# Altium schematic symbol library rcl.SCHLIB: 895 symbols (part 1 of 5)
Pins are listed as number, name and electrical type; pins without a type are passive.

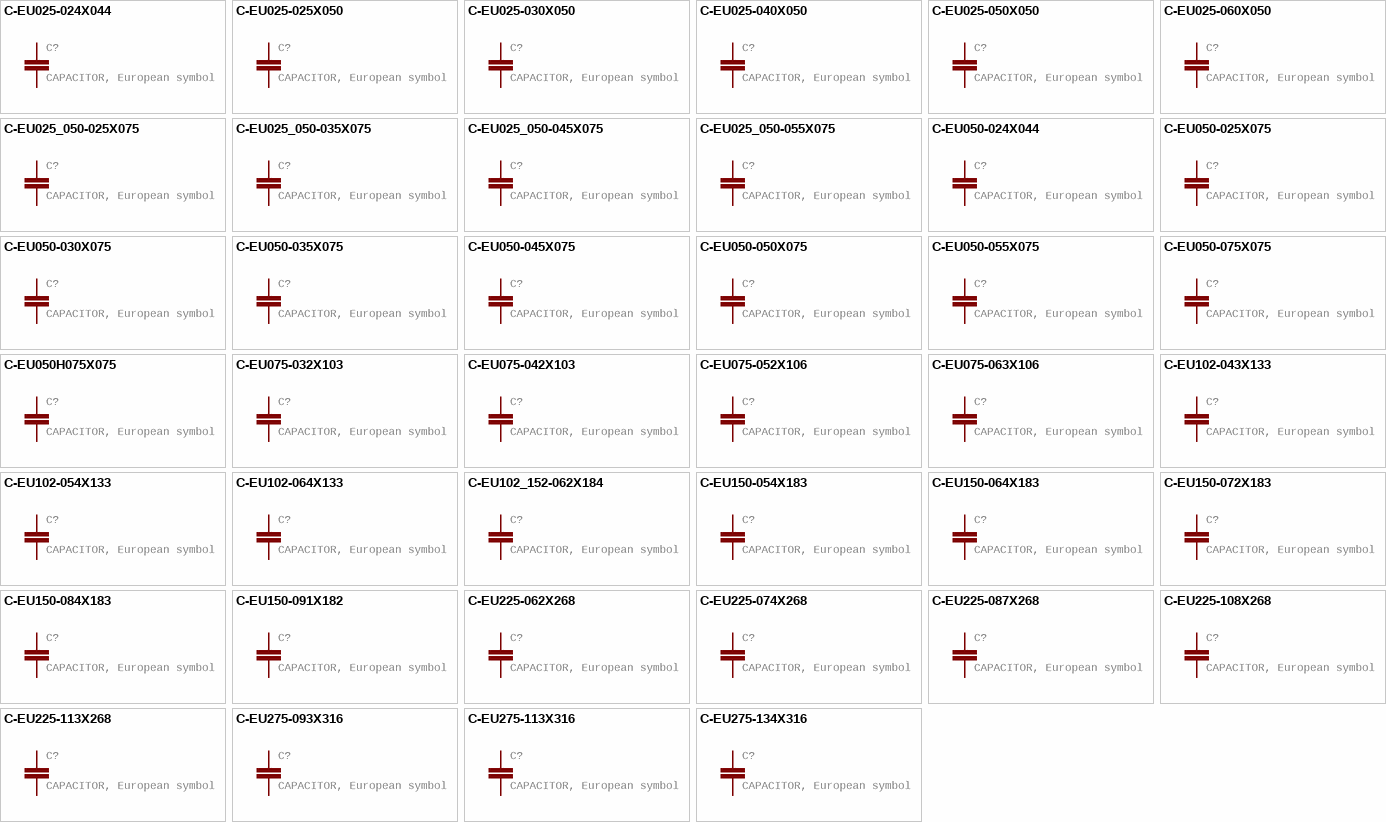
[diagram p0: symbols C-EU025-024X044 to C-EU275-134X316]

## C-EU025-024X044
designator C?, comment CAPACITOR, European symbol
GateName_1: G$1; SymbolName_1: C-EU; DeviceName: 025-024X044; POPULARITY: 56; LibraryName: rcl; DeviceSetName: C-EU; Package: C025-024X044; SPICEPREFIX: C
footprint C025-024X044
pins: 1, 2

## C-EU025-025X050
designator C?, comment CAPACITOR, European symbol
GateName_1: G$1; SymbolName_1: C-EU; DeviceName: 025-025X050; POPULARITY: 65; LibraryName: rcl; DeviceSetName: C-EU; Package: C025-025X050; SPICEPREFIX: C
footprint C025-025X050
pins: 1, 2

## C-EU025-030X050
designator C?, comment CAPACITOR, European symbol
GateName_1: G$1; SymbolName_1: C-EU; DeviceName: 025-030X050; POPULARITY: 14; LibraryName: rcl; DeviceSetName: C-EU; Package: C025-030X050; SPICEPREFIX: C
footprint C025-030X050
pins: 1, 2

## C-EU025-040X050
designator C?, comment CAPACITOR, European symbol
GateName_1: G$1; SymbolName_1: C-EU; DeviceName: 025-040X050; POPULARITY: 4; LibraryName: rcl; DeviceSetName: C-EU; Package: C025-040X050; SPICEPREFIX: C
footprint C025-040X050
pins: 1, 2

## C-EU025-050X050
designator C?, comment CAPACITOR, European symbol
GateName_1: G$1; SymbolName_1: C-EU; DeviceName: 025-050X050; POPULARITY: 16; LibraryName: rcl; DeviceSetName: C-EU; Package: C025-050X050; SPICEPREFIX: C
footprint C025-050X050
pins: 1, 2

## C-EU025-060X050
designator C?, comment CAPACITOR, European symbol
GateName_1: G$1; SymbolName_1: C-EU; DeviceName: 025-060X050; POPULARITY: 0; LibraryName: rcl; DeviceSetName: C-EU; Package: C025-060X050; SPICEPREFIX: C
footprint C025-060X050
pins: 1, 2

## C-EU025_050-025X075
designator C?, comment CAPACITOR, European symbol
GateName_1: G$1; SymbolName_1: C-EU; DeviceName: 025_050-025X075; POPULARITY: 0; LibraryName: rcl; DeviceSetName: C-EU; Package: C025_050-025X075; SPICEPREFIX: C
footprint C025_050-025X075
pins: 1, 2

## C-EU025_050-035X075
designator C?, comment CAPACITOR, European symbol
GateName_1: G$1; SymbolName_1: C-EU; DeviceName: 025_050-035X075; POPULARITY: 0; LibraryName: rcl; DeviceSetName: C-EU; Package: C025_050-035X075; SPICEPREFIX: C
footprint C025_050-035X075
pins: 1, 2

## C-EU025_050-045X075
designator C?, comment CAPACITOR, European symbol
GateName_1: G$1; SymbolName_1: C-EU; DeviceName: 025_050-045X075; POPULARITY: 0; LibraryName: rcl; DeviceSetName: C-EU; Package: C025_050-045X075; SPICEPREFIX: C
footprint C025_050-045X075
pins: 1, 2

## C-EU025_050-055X075
designator C?, comment CAPACITOR, European symbol
GateName_1: G$1; SymbolName_1: C-EU; DeviceName: 025_050-055X075; POPULARITY: 1; LibraryName: rcl; DeviceSetName: C-EU; Package: C025_050-055X075; SPICEPREFIX: C
footprint C025_050-055X075
pins: 1, 2

## C-EU050-024X044
designator C?, comment CAPACITOR, European symbol
GateName_1: G$1; SymbolName_1: C-EU; DeviceName: 050-024X044; POPULARITY: 33; LibraryName: rcl; DeviceSetName: C-EU; Package: C050-024X044; SPICEPREFIX: C
footprint C050-024X044
pins: 1, 2

## C-EU050-025X075
designator C?, comment CAPACITOR, European symbol
GateName_1: G$1; SymbolName_1: C-EU; DeviceName: 050-025X075; POPULARITY: 29; LibraryName: rcl; DeviceSetName: C-EU; Package: C050-025X075; SPICEPREFIX: C
footprint C050-025X075
pins: 1, 2

## C-EU050-030X075
designator C?, comment CAPACITOR, European symbol
GateName_1: G$1; SymbolName_1: C-EU; DeviceName: 050-030X075; POPULARITY: 9; LibraryName: rcl; DeviceSetName: C-EU; Package: C050-030X075; SPICEPREFIX: C
footprint C050-030X075
pins: 1, 2

## C-EU050-035X075
designator C?, comment CAPACITOR, European symbol
GateName_1: G$1; SymbolName_1: C-EU; DeviceName: 050-035X075; POPULARITY: 2; LibraryName: rcl; DeviceSetName: C-EU; Package: C050-035X075; SPICEPREFIX: C
footprint C050-035X075
pins: 1, 2

## C-EU050-045X075
designator C?, comment CAPACITOR, European symbol
GateName_1: G$1; SymbolName_1: C-EU; DeviceName: 050-045X075; POPULARITY: 1; LibraryName: rcl; DeviceSetName: C-EU; Package: C050-045X075; SPICEPREFIX: C
footprint C050-045X075
pins: 1, 2

## C-EU050-050X075
designator C?, comment CAPACITOR, European symbol
GateName_1: G$1; SymbolName_1: C-EU; DeviceName: 050-050X075; POPULARITY: 1; LibraryName: rcl; DeviceSetName: C-EU; Package: C050-050X075; SPICEPREFIX: C
footprint C050-050X075
pins: 1, 2

## C-EU050-055X075
designator C?, comment CAPACITOR, European symbol
GateName_1: G$1; SymbolName_1: C-EU; DeviceName: 050-055X075; POPULARITY: 1; LibraryName: rcl; DeviceSetName: C-EU; Package: C050-055X075; SPICEPREFIX: C
footprint C050-055X075
pins: 1, 2

## C-EU050-075X075
designator C?, comment CAPACITOR, European symbol
GateName_1: G$1; SymbolName_1: C-EU; DeviceName: 050-075X075; POPULARITY: 0; LibraryName: rcl; DeviceSetName: C-EU; Package: C050-075X075; SPICEPREFIX: C
footprint C050-075X075
pins: 1, 2

## C-EU050H075X075
designator C?, comment CAPACITOR, European symbol
GateName_1: G$1; SymbolName_1: C-EU; DeviceName: 050H075X075; POPULARITY: 0; LibraryName: rcl; DeviceSetName: C-EU; Package: C050H075X075; SPICEPREFIX: C
footprint C050H075X075
pins: 1, 2

## C-EU075-032X103
designator C?, comment CAPACITOR, European symbol
GateName_1: G$1; SymbolName_1: C-EU; DeviceName: 075-032X103; POPULARITY: 0; LibraryName: rcl; DeviceSetName: C-EU; Package: C075-032X103; SPICEPREFIX: C
footprint C075-032X103
pins: 1, 2

## C-EU075-042X103
designator C?, comment CAPACITOR, European symbol
GateName_1: G$1; SymbolName_1: C-EU; DeviceName: 075-042X103; POPULARITY: 0; LibraryName: rcl; DeviceSetName: C-EU; Package: C075-042X103; SPICEPREFIX: C
footprint C075-042X103
pins: 1, 2

## C-EU075-052X106
designator C?, comment CAPACITOR, European symbol
GateName_1: G$1; SymbolName_1: C-EU; DeviceName: 075-052X106; POPULARITY: 4; LibraryName: rcl; DeviceSetName: C-EU; Package: C075-052X106; SPICEPREFIX: C
footprint C075-052X106
pins: 1, 2

## C-EU075-063X106
designator C?, comment CAPACITOR, European symbol
GateName_1: G$1; SymbolName_1: C-EU; DeviceName: 075-063X106; POPULARITY: 0; LibraryName: rcl; DeviceSetName: C-EU; Package: C075-063X106; SPICEPREFIX: C
footprint C075-063X106
pins: 1, 2

## C-EU102-043X133
designator C?, comment CAPACITOR, European symbol
GateName_1: G$1; SymbolName_1: C-EU; DeviceName: 102-043X133; POPULARITY: 1; LibraryName: rcl; DeviceSetName: C-EU; Package: C102-043X133; SPICEPREFIX: C
footprint C102-043X133
pins: 1, 2

## C-EU102-054X133
designator C?, comment CAPACITOR, European symbol
GateName_1: G$1; SymbolName_1: C-EU; DeviceName: 102-054X133; POPULARITY: 0; LibraryName: rcl; DeviceSetName: C-EU; Package: C102-054X133; SPICEPREFIX: C
footprint C102-054X133
pins: 1, 2

## C-EU102-064X133
designator C?, comment CAPACITOR, European symbol
GateName_1: G$1; SymbolName_1: C-EU; DeviceName: 102-064X133; POPULARITY: 0; LibraryName: rcl; DeviceSetName: C-EU; Package: C102-064X133; SPICEPREFIX: C
footprint C102-064X133
pins: 1, 2

## C-EU102_152-062X184
designator C?, comment CAPACITOR, European symbol
GateName_1: G$1; SymbolName_1: C-EU; DeviceName: 102_152-062X184; POPULARITY: 0; LibraryName: rcl; DeviceSetName: C-EU; Package: C102_152-062X184; SPICEPREFIX: C
footprint C102_152-062X184
pins: 1, 2

## C-EU150-054X183
designator C?, comment CAPACITOR, European symbol
GateName_1: G$1; SymbolName_1: C-EU; DeviceName: 150-054X183; POPULARITY: 3; LibraryName: rcl; DeviceSetName: C-EU; Package: C150-054X183; SPICEPREFIX: C
footprint C150-054X183
pins: 1, 2

## C-EU150-064X183
designator C?, comment CAPACITOR, European symbol
GateName_1: G$1; SymbolName_1: C-EU; DeviceName: 150-064X183; POPULARITY: 0; LibraryName: rcl; DeviceSetName: C-EU; Package: C150-064X183; SPICEPREFIX: C
footprint C150-064X183
pins: 1, 2

## C-EU150-072X183
designator C?, comment CAPACITOR, European symbol
GateName_1: G$1; SymbolName_1: C-EU; DeviceName: 150-072X183; POPULARITY: 0; LibraryName: rcl; DeviceSetName: C-EU; Package: C150-072X183; SPICEPREFIX: C
footprint C150-072X183
pins: 1, 2

## C-EU150-084X183
designator C?, comment CAPACITOR, European symbol
GateName_1: G$1; SymbolName_1: C-EU; DeviceName: 150-084X183; POPULARITY: 0; LibraryName: rcl; DeviceSetName: C-EU; Package: C150-084X183; SPICEPREFIX: C
footprint C150-084X183
pins: 1, 2

## C-EU150-091X182
designator C?, comment CAPACITOR, European symbol
GateName_1: G$1; SymbolName_1: C-EU; DeviceName: 150-091X182; POPULARITY: 0; LibraryName: rcl; DeviceSetName: C-EU; Package: C150-091X182; SPICEPREFIX: C
footprint C150-091X182
pins: 1, 2

## C-EU225-062X268
designator C?, comment CAPACITOR, European symbol
GateName_1: G$1; SymbolName_1: C-EU; DeviceName: 225-062X268; POPULARITY: 0; LibraryName: rcl; DeviceSetName: C-EU; Package: C225-062X268; SPICEPREFIX: C
footprint C225-062X268
pins: 1, 2

## C-EU225-074X268
designator C?, comment CAPACITOR, European symbol
GateName_1: G$1; SymbolName_1: C-EU; DeviceName: 225-074X268; POPULARITY: 2; LibraryName: rcl; DeviceSetName: C-EU; Package: C225-074X268; SPICEPREFIX: C
footprint C225-074X268
pins: 1, 2

## C-EU225-087X268
designator C?, comment CAPACITOR, European symbol
GateName_1: G$1; SymbolName_1: C-EU; DeviceName: 225-087X268; POPULARITY: 0; LibraryName: rcl; DeviceSetName: C-EU; Package: C225-087X268; SPICEPREFIX: C
footprint C225-087X268
pins: 1, 2

## C-EU225-108X268
designator C?, comment CAPACITOR, European symbol
GateName_1: G$1; SymbolName_1: C-EU; DeviceName: 225-108X268; POPULARITY: 0; LibraryName: rcl; DeviceSetName: C-EU; Package: C225-108X268; SPICEPREFIX: C
footprint C225-108X268
pins: 1, 2

## C-EU225-113X268
designator C?, comment CAPACITOR, European symbol
GateName_1: G$1; SymbolName_1: C-EU; DeviceName: 225-113X268; POPULARITY: 0; LibraryName: rcl; DeviceSetName: C-EU; Package: C225-113X268; SPICEPREFIX: C
footprint C225-113X268
pins: 1, 2

## C-EU275-093X316
designator C?, comment CAPACITOR, European symbol
GateName_1: G$1; SymbolName_1: C-EU; DeviceName: 275-093X316; POPULARITY: 0; LibraryName: rcl; DeviceSetName: C-EU; Package: C275-093X316; SPICEPREFIX: C
footprint C275-093X316
pins: 1, 2

## C-EU275-113X316
designator C?, comment CAPACITOR, European symbol
GateName_1: G$1; SymbolName_1: C-EU; DeviceName: 275-113X316; POPULARITY: 0; LibraryName: rcl; DeviceSetName: C-EU; Package: C275-113X316; SPICEPREFIX: C
footprint C275-113X316
pins: 1, 2

## C-EU275-134X316
designator C?, comment CAPACITOR, European symbol
GateName_1: G$1; SymbolName_1: C-EU; DeviceName: 275-134X316; POPULARITY: 0; LibraryName: rcl; DeviceSetName: C-EU; Package: C275-134X316; SPICEPREFIX: C
footprint C275-134X316
pins: 1, 2

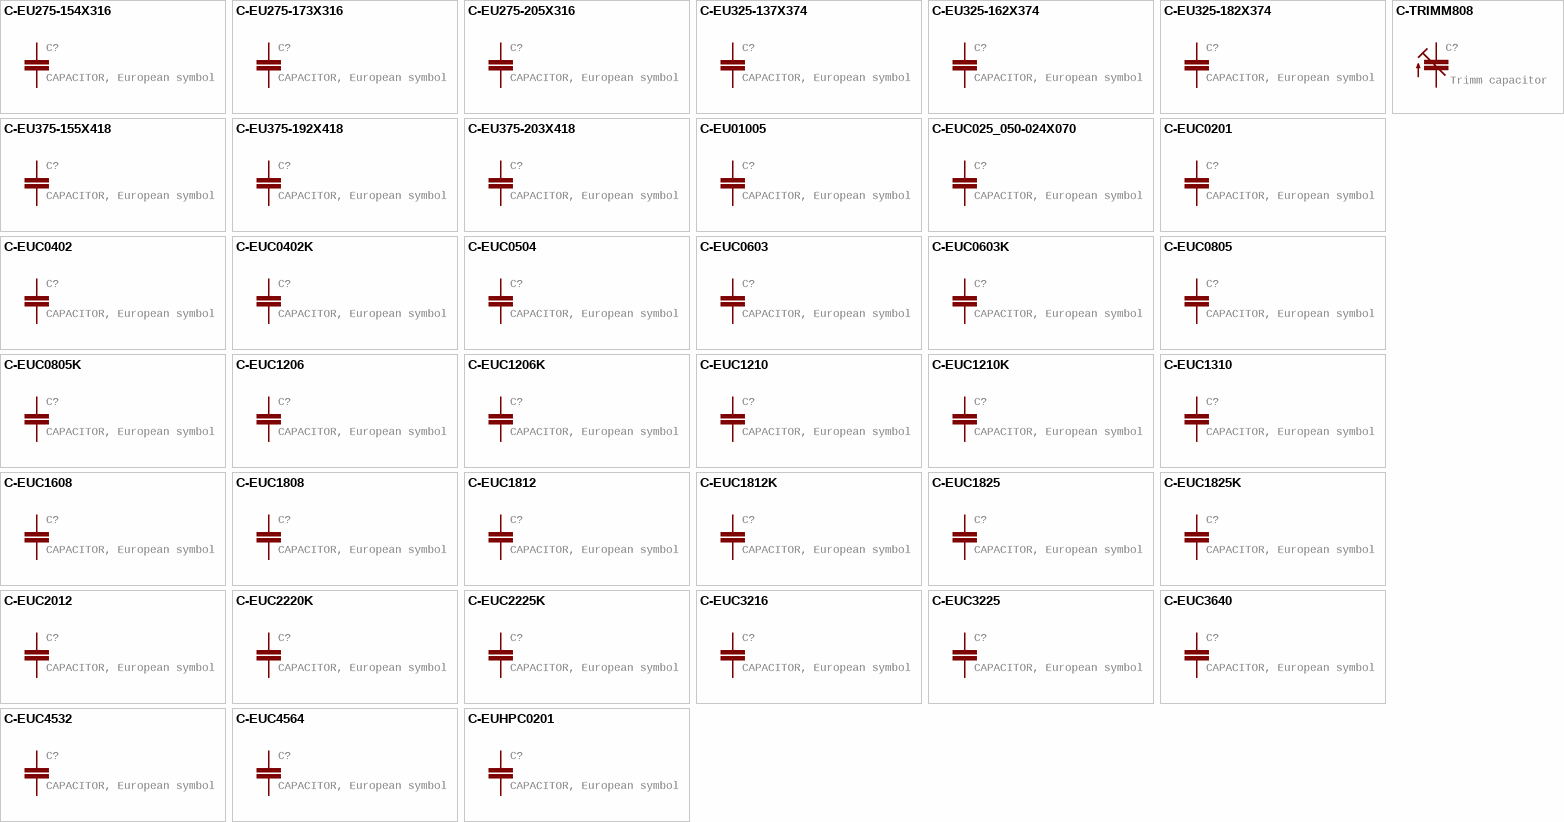
[diagram p1: symbols C-EU275-154X316 to C-TRIMM808]

## C-EU275-154X316
designator C?, comment CAPACITOR, European symbol
GateName_1: G$1; SymbolName_1: C-EU; DeviceName: 275-154X316; POPULARITY: 0; LibraryName: rcl; DeviceSetName: C-EU; Package: C275-154X316; SPICEPREFIX: C
footprint C275-154X316
pins: 1, 2

## C-EU275-173X316
designator C?, comment CAPACITOR, European symbol
GateName_1: G$1; SymbolName_1: C-EU; DeviceName: 275-173X316; POPULARITY: 0; LibraryName: rcl; DeviceSetName: C-EU; Package: C275-173X316; SPICEPREFIX: C
footprint C275-173X316
pins: 1, 2

## C-EU275-205X316
designator C?, comment CAPACITOR, European symbol
GateName_1: G$1; SymbolName_1: C-EU; DeviceName: 275-205X316; POPULARITY: 0; LibraryName: rcl; DeviceSetName: C-EU; Package: C275-205X316; SPICEPREFIX: C
footprint C275-205X316
pins: 1, 2

## C-EU325-137X374
designator C?, comment CAPACITOR, European symbol
GateName_1: G$1; SymbolName_1: C-EU; DeviceName: 325-137X374; POPULARITY: 0; LibraryName: rcl; DeviceSetName: C-EU; Package: C325-137X374; SPICEPREFIX: C
footprint C325-137X374
pins: 1, 2

## C-EU325-162X374
designator C?, comment CAPACITOR, European symbol
GateName_1: G$1; SymbolName_1: C-EU; DeviceName: 325-162X374; POPULARITY: 0; LibraryName: rcl; DeviceSetName: C-EU; Package: C325-162X374; SPICEPREFIX: C
footprint C325-162X374
pins: 1, 2

## C-EU325-182X374
designator C?, comment CAPACITOR, European symbol
GateName_1: G$1; SymbolName_1: C-EU; DeviceName: 325-182X374; POPULARITY: 0; LibraryName: rcl; DeviceSetName: C-EU; Package: C325-182X374; SPICEPREFIX: C
footprint C325-182X374
pins: 1, 2

## C-EU375-155X418
designator C?, comment CAPACITOR, European symbol
GateName_1: G$1; SymbolName_1: C-EU; DeviceName: 375-155X418; POPULARITY: 0; LibraryName: rcl; DeviceSetName: C-EU; Package: C375-155X418; SPICEPREFIX: C
footprint C375-155X418
pins: 1, 2

## C-EU375-192X418
designator C?, comment CAPACITOR, European symbol
GateName_1: G$1; SymbolName_1: C-EU; DeviceName: 375-192X418; POPULARITY: 0; LibraryName: rcl; DeviceSetName: C-EU; Package: C375-192X418; SPICEPREFIX: C
footprint C375-192X418
pins: 1, 2

## C-EU375-203X418
designator C?, comment CAPACITOR, European symbol
GateName_1: G$1; SymbolName_1: C-EU; DeviceName: 375-203X418; POPULARITY: 0; LibraryName: rcl; DeviceSetName: C-EU; Package: C375-203X418; SPICEPREFIX: C
footprint C375-203X418
pins: 1, 2

## C-EU01005
designator C?, comment CAPACITOR, European symbol
GateName_1: G$1; SymbolName_1: C-EU; DeviceName: 01005; POPULARITY: 0; LibraryName: rcl; DeviceSetName: C-EU; Package: C01005; SPICEPREFIX: C
footprint C01005
pins: 1, 2

## C-EUC025_050-024X070
designator C?, comment CAPACITOR, European symbol
GateName_1: G$1; SymbolName_1: C-EU; DeviceName: C025_050-024X070; POPULARITY: 0; LibraryName: rcl; DeviceSetName: C-EU; Package: C025_050-024X070; SPICEPREFIX: C
footprint C025_050-024X070
pins: 1, 2

## C-EUC0201
designator C?, comment CAPACITOR, European symbol
GateName_1: G$1; SymbolName_1: C-EU; DeviceName: C0201; POPULARITY: 0; LibraryName: rcl; DeviceSetName: C-EU; Package: C0201; SPICEPREFIX: C
footprint C0201
pins: 1, 2

## C-EUC0402
designator C?, comment CAPACITOR, European symbol
GateName_1: G$1; SymbolName_1: C-EU; DeviceName: C0402; POPULARITY: 18; LibraryName: rcl; DeviceSetName: C-EU; Package: C0402; SPICEPREFIX: C
footprint C0402
pins: 1, 2

## C-EUC0402K
designator C?, comment CAPACITOR, European symbol
GateName_1: G$1; SymbolName_1: C-EU; DeviceName: C0402K; POPULARITY: 15; LibraryName: rcl; DeviceSetName: C-EU; Package: C0402K; SPICEPREFIX: C
footprint C0402K
pins: 1, 2

## C-EUC0504
designator C?, comment CAPACITOR, European symbol
GateName_1: G$1; SymbolName_1: C-EU; DeviceName: C0504; POPULARITY: 2; LibraryName: rcl; DeviceSetName: C-EU; Package: C0504; SPICEPREFIX: C
footprint C0504
pins: 1, 2

## C-EUC0603
designator C?, comment CAPACITOR, European symbol
GateName_1: G$1; SymbolName_1: C-EU; DeviceName: C0603; POPULARITY: 73; LibraryName: rcl; DeviceSetName: C-EU; Package: C0603; SPICEPREFIX: C
footprint C0603
pins: 1, 2

## C-EUC0603K
designator C?, comment CAPACITOR, European symbol
GateName_1: G$1; SymbolName_1: C-EU; DeviceName: C0603K; POPULARITY: 30; LibraryName: rcl; DeviceSetName: C-EU; Package: C0603K; SPICEPREFIX: C
footprint C0603K
pins: 1, 2

## C-EUC0805
designator C?, comment CAPACITOR, European symbol
GateName_1: G$1; SymbolName_1: C-EU; DeviceName: C0805; POPULARITY: 88; LibraryName: rcl; DeviceSetName: C-EU; Package: C0805; SPICEPREFIX: C
footprint C0805
pins: 1, 2

## C-EUC0805K
designator C?, comment CAPACITOR, European symbol
GateName_1: G$1; SymbolName_1: C-EU; DeviceName: C0805K; POPULARITY: 52; LibraryName: rcl; DeviceSetName: C-EU; Package: C0805K; SPICEPREFIX: C
footprint C0805K
pins: 1, 2

## C-EUC1206
designator C?, comment CAPACITOR, European symbol
GateName_1: G$1; SymbolName_1: C-EU; DeviceName: C1206; POPULARITY: 54; LibraryName: rcl; DeviceSetName: C-EU; Package: C1206; SPICEPREFIX: C
footprint C1206
pins: 1, 2

## C-EUC1206K
designator C?, comment CAPACITOR, European symbol
GateName_1: G$1; SymbolName_1: C-EU; DeviceName: C1206K; POPULARITY: 13; LibraryName: rcl; DeviceSetName: C-EU; Package: C1206K; SPICEPREFIX: C
footprint C1206K
pins: 1, 2

## C-EUC1210
designator C?, comment CAPACITOR, European symbol
GateName_1: G$1; SymbolName_1: C-EU; DeviceName: C1210; POPULARITY: 0; LibraryName: rcl; DeviceSetName: C-EU; Package: C1210; SPICEPREFIX: C
footprint C1210
pins: 1, 2

## C-EUC1210K
designator C?, comment CAPACITOR, European symbol
GateName_1: G$1; SymbolName_1: C-EU; DeviceName: C1210K; POPULARITY: 0; LibraryName: rcl; DeviceSetName: C-EU; Package: C1210K; SPICEPREFIX: C
footprint C1210K
pins: 1, 2

## C-EUC1310
designator C?, comment CAPACITOR, European symbol
GateName_1: G$1; SymbolName_1: C-EU; DeviceName: C1310; POPULARITY: 0; LibraryName: rcl; DeviceSetName: C-EU; Package: C1310; SPICEPREFIX: C
footprint C1310
pins: 1, 2

## C-EUC1608
designator C?, comment CAPACITOR, European symbol
GateName_1: G$1; SymbolName_1: C-EU; DeviceName: C1608; POPULARITY: 3; LibraryName: rcl; DeviceSetName: C-EU; Package: C1608; SPICEPREFIX: C
footprint C1608
pins: 1, 2

## C-EUC1808
designator C?, comment CAPACITOR, European symbol
GateName_1: G$1; SymbolName_1: C-EU; DeviceName: C1808; POPULARITY: 0; LibraryName: rcl; DeviceSetName: C-EU; Package: C1808; SPICEPREFIX: C
footprint C1808
pins: 1, 2

## C-EUC1812
designator C?, comment CAPACITOR, European symbol
GateName_1: G$1; SymbolName_1: C-EU; DeviceName: C1812; POPULARITY: 3; LibraryName: rcl; DeviceSetName: C-EU; Package: C1812; SPICEPREFIX: C
footprint C1812
pins: 1, 2

## C-EUC1812K
designator C?, comment CAPACITOR, European symbol
GateName_1: G$1; SymbolName_1: C-EU; DeviceName: C1812K; POPULARITY: 0; LibraryName: rcl; DeviceSetName: C-EU; Package: C1812K; SPICEPREFIX: C
footprint C1812K
pins: 1, 2

## C-EUC1825
designator C?, comment CAPACITOR, European symbol
GateName_1: G$1; SymbolName_1: C-EU; DeviceName: C1825; POPULARITY: 0; LibraryName: rcl; DeviceSetName: C-EU; Package: C1825; SPICEPREFIX: C
footprint C1825
pins: 1, 2

## C-EUC1825K
designator C?, comment CAPACITOR, European symbol
GateName_1: G$1; SymbolName_1: C-EU; DeviceName: C1825K; POPULARITY: 0; LibraryName: rcl; DeviceSetName: C-EU; Package: C1825K; SPICEPREFIX: C
footprint C1825K
pins: 1, 2

## C-EUC2012
designator C?, comment CAPACITOR, European symbol
GateName_1: G$1; SymbolName_1: C-EU; DeviceName: C2012; POPULARITY: 0; LibraryName: rcl; DeviceSetName: C-EU; Package: C2012; SPICEPREFIX: C
footprint C2012
pins: 1, 2

## C-EUC2220K
designator C?, comment CAPACITOR, European symbol
GateName_1: G$1; SymbolName_1: C-EU; DeviceName: C2220K; POPULARITY: 0; LibraryName: rcl; DeviceSetName: C-EU; Package: C2220K; SPICEPREFIX: C
footprint C2220K
pins: 1, 2

## C-EUC2225K
designator C?, comment CAPACITOR, European symbol
GateName_1: G$1; SymbolName_1: C-EU; DeviceName: C2225K; POPULARITY: 0; LibraryName: rcl; DeviceSetName: C-EU; Package: C2225K; SPICEPREFIX: C
footprint C2225K
pins: 1, 2

## C-EUC3216
designator C?, comment CAPACITOR, European symbol
GateName_1: G$1; SymbolName_1: C-EU; DeviceName: C3216; POPULARITY: 4; LibraryName: rcl; DeviceSetName: C-EU; Package: C3216; SPICEPREFIX: C
footprint C3216
pins: 1, 2

## C-EUC3225
designator C?, comment CAPACITOR, European symbol
GateName_1: G$1; SymbolName_1: C-EU; DeviceName: C3225; POPULARITY: 0; LibraryName: rcl; DeviceSetName: C-EU; Package: C3225; SPICEPREFIX: C
footprint C3225
pins: 1, 2

## C-EUC3640
designator C?, comment CAPACITOR, European symbol
GateName_1: G$1; SymbolName_1: C-EU; DeviceName: C3640; POPULARITY: 0; LibraryName: rcl; DeviceSetName: C-EU; Package: C3640; SPICEPREFIX: C
footprint C3640
pins: 1, 2

## C-EUC4532
designator C?, comment CAPACITOR, European symbol
GateName_1: G$1; SymbolName_1: C-EU; DeviceName: C4532; POPULARITY: 0; LibraryName: rcl; DeviceSetName: C-EU; Package: C4532; SPICEPREFIX: C
footprint C4532
pins: 1, 2

## C-EUC4564
designator C?, comment CAPACITOR, European symbol
GateName_1: G$1; SymbolName_1: C-EU; DeviceName: C4564; POPULARITY: 0; LibraryName: rcl; DeviceSetName: C-EU; Package: C4564; SPICEPREFIX: C
footprint C4564
pins: 1, 2

## C-EUHPC0201
designator C?, comment CAPACITOR, European symbol
GateName_1: G$1; SymbolName_1: C-EU; DeviceName: HPC0201; POPULARITY: 0; LibraryName: rcl; DeviceSetName: C-EU; Package: HPC0201; SPICEPREFIX: C
footprint HPC0201
pins: 1, 2

## C-TRIMM808
designator C?, comment Trimm capacitor
GateName_1: G$1; SymbolName_1: C-TRIMM; DeviceName: 808; POPULARITY: 3; LibraryName: rcl; DeviceSetName: C-TRIMM; Package: CTRIM808-BC; SPICEPREFIX: C
footprint CTRIM808-BC
pins: 1 E, 2 A

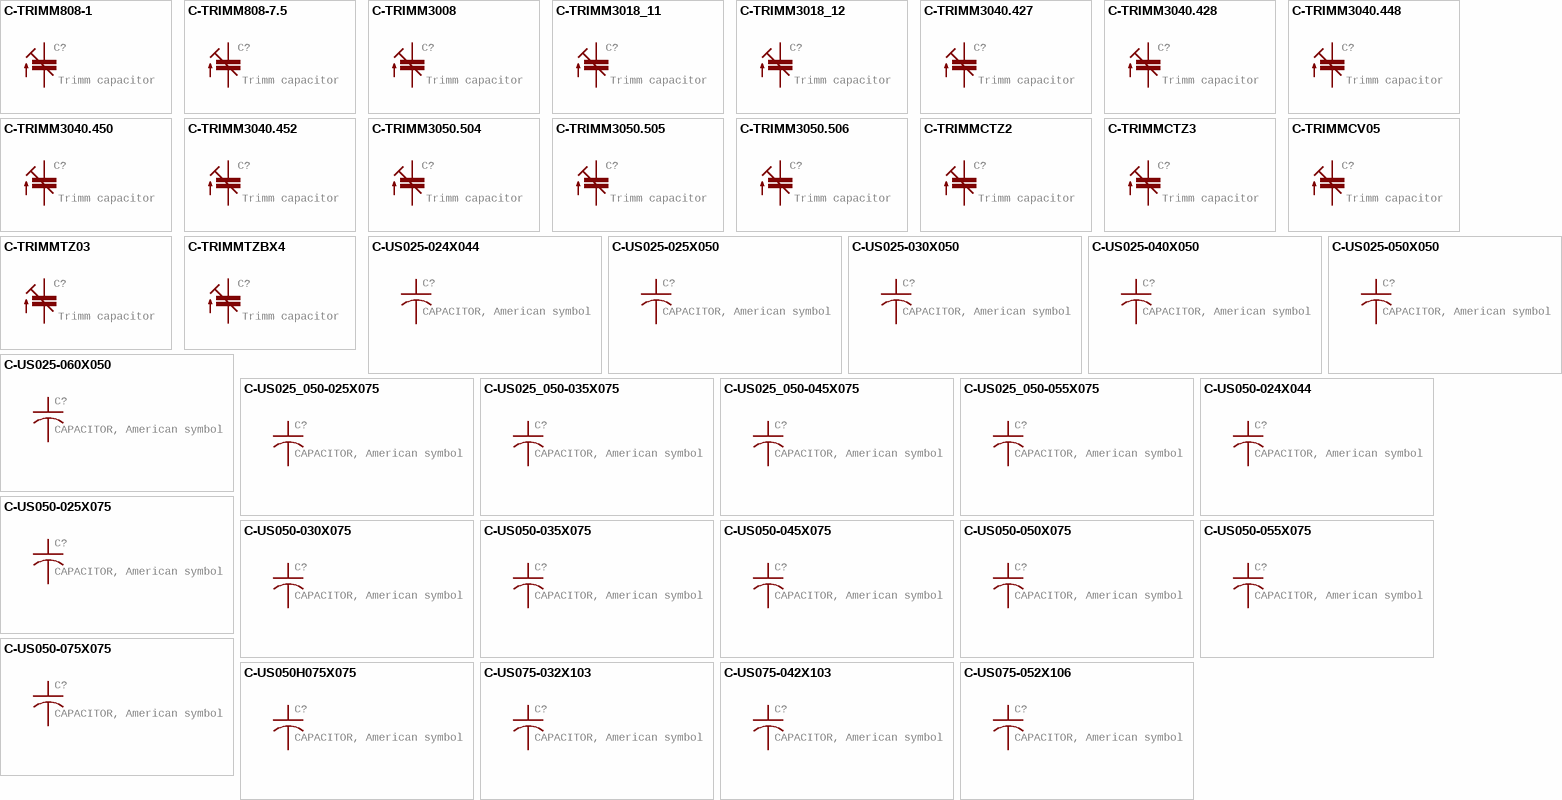
[diagram p2: symbols C-TRIMM808-1 to C-US075-052X106]

## C-TRIMM808-1
designator C?, comment Trimm capacitor
GateName_1: G$1; SymbolName_1: C-TRIMM; DeviceName: 808-1; POPULARITY: 0; LibraryName: rcl; DeviceSetName: C-TRIMM; Package: CTRIM808-1; SPICEPREFIX: C
footprint CTRIM808-1
pins: 1 E, 2 A

## C-TRIMM808-7.5
designator C?, comment Trimm capacitor
GateName_1: G$1; SymbolName_1: C-TRIMM; POPULARITY: 0; DeviceName: 808-7.5; LibraryName: rcl; DeviceSetName: C-TRIMM; Package: CTRIM808-BC7.5; SPICEPREFIX: C
footprint CTRIM808-BC7.5
pins: 1 E, 2 A

## C-TRIMM3008
designator C?, comment Trimm capacitor
GateName_1: G$1; SymbolName_1: C-TRIMM; DeviceName: 3008; POPULARITY: 0; LibraryName: rcl; DeviceSetName: C-TRIMM; Package: CTRIM3008; SPICEPREFIX: C
footprint CTRIM3008
pins: + E, - A

## C-TRIMM3018_11
designator C?, comment Trimm capacitor
GateName_1: G$1; SymbolName_1: C-TRIMM; DeviceName: 3018_11; POPULARITY: 0; LibraryName: rcl; DeviceSetName: C-TRIMM; Package: CTRIM3018_11; SPICEPREFIX: C
footprint CTRIM3018_11
pins: + E, - A

## C-TRIMM3018_12
designator C?, comment Trimm capacitor
GateName_1: G$1; SymbolName_1: C-TRIMM; DeviceName: 3018_12; POPULARITY: 0; LibraryName: rcl; DeviceSetName: C-TRIMM; Package: CTRIM3018_12; SPICEPREFIX: C
footprint CTRIM3018_12
pins: + E, - A

## C-TRIMM3040.427
designator C?, comment Trimm capacitor
GateName_1: G$1; SymbolName_1: C-TRIMM; DeviceName: 3040.427; POPULARITY: 0; LibraryName: rcl; DeviceSetName: C-TRIMM; Package: CTRIM3040.427; SPICEPREFIX: C
footprint CTRIM3040.427
pins: 1A E, 2 A

## C-TRIMM3040.428
designator C?, comment Trimm capacitor
GateName_1: G$1; SymbolName_1: C-TRIMM; DeviceName: 3040.428; POPULARITY: 0; LibraryName: rcl; DeviceSetName: C-TRIMM; Package: CTRIM3040.428; SPICEPREFIX: C
footprint CTRIM3040.428
pins: 1A E, 2 A

## C-TRIMM3040.448
designator C?, comment Trimm capacitor
GateName_1: G$1; SymbolName_1: C-TRIMM; DeviceName: 3040.448; POPULARITY: 0; LibraryName: rcl; DeviceSetName: C-TRIMM; Package: CTRIM3040.448; SPICEPREFIX: C
footprint CTRIM3040.448
pins: 1A E, 2 A

## C-TRIMM3040.450
designator C?, comment Trimm capacitor
GateName_1: G$1; SymbolName_1: C-TRIMM; DeviceName: 3040.450; POPULARITY: 0; LibraryName: rcl; DeviceSetName: C-TRIMM; Package: CTRIM3040.450; SPICEPREFIX: C
footprint CTRIM3040.450
pins: 1A E, 2 A

## C-TRIMM3040.452
designator C?, comment Trimm capacitor
GateName_1: G$1; SymbolName_1: C-TRIMM; DeviceName: 3040.452; POPULARITY: 0; LibraryName: rcl; DeviceSetName: C-TRIMM; Package: CTRIM3040.452; SPICEPREFIX: C
footprint CTRIM3040.452
pins: 1A E, 2 A

## C-TRIMM3050.504
designator C?, comment Trimm capacitor
GateName_1: G$1; SymbolName_1: C-TRIMM; DeviceName: 3050.504; POPULARITY: 0; LibraryName: rcl; DeviceSetName: C-TRIMM; Package: CTRIM3050.504; SPICEPREFIX: C
footprint CTRIM3050.504
pins: 1 E, 2 A

## C-TRIMM3050.505
designator C?, comment Trimm capacitor
GateName_1: G$1; SymbolName_1: C-TRIMM; DeviceName: 3050.505; POPULARITY: 0; LibraryName: rcl; DeviceSetName: C-TRIMM; Package: CTRIM3050.505; SPICEPREFIX: C
footprint CTRIM3050.505
pins: 1 E, 2 A

## C-TRIMM3050.506
designator C?, comment Trimm capacitor
GateName_1: G$1; SymbolName_1: C-TRIMM; DeviceName: 3050.506; POPULARITY: 0; LibraryName: rcl; DeviceSetName: C-TRIMM; Package: CTRIM3050.506; SPICEPREFIX: C
footprint CTRIM3050.506
pins: 1A E, 2 A

## C-TRIMMCTZ2
designator C?, comment Trimm capacitor
GateName_1: G$1; SymbolName_1: C-TRIMM; DeviceName: CTZ2; POPULARITY: 0; LibraryName: rcl; DeviceSetName: C-TRIMM; Package: CTRIMCTZ2; SPICEPREFIX: C
footprint CTRIMCTZ2
pins: 1 E, 2 A

## C-TRIMMCTZ3
designator C?, comment Trimm capacitor
GateName_1: G$1; SymbolName_1: C-TRIMM; DeviceName: CTZ3; POPULARITY: 0; LibraryName: rcl; DeviceSetName: C-TRIMM; Package: CTRIMCTZ3; SPICEPREFIX: C
footprint CTRIMCTZ3
pins: 1 E, 2 A

## C-TRIMMCV05
designator C?, comment Trimm capacitor
GateName_1: G$1; SymbolName_1: C-TRIMM; DeviceName: CV05; POPULARITY: 0; LibraryName: rcl; DeviceSetName: C-TRIMM; Package: CTRIMCV05; SPICEPREFIX: C
footprint CTRIMCV05
pins: 1 E, 2 A

## C-TRIMMTZ03
designator C?, comment Trimm capacitor
GateName_1: G$1; SymbolName_1: C-TRIMM; DeviceName: TZ03; POPULARITY: 0; LibraryName: rcl; DeviceSetName: C-TRIMM; Package: CTRIMTZ03; SPICEPREFIX: C
footprint CTRIMTZ03
pins: 1 E, 2 A

## C-TRIMMTZBX4
designator C?, comment Trimm capacitor
GateName_1: G$1; SymbolName_1: C-TRIMM; DeviceName: TZBX4; POPULARITY: 1; LibraryName: rcl; DeviceSetName: C-TRIMM; Package: CTRIMTZBX4; SPICEPREFIX: C
footprint CTRIMTZBX4
pins: 1 E, 2 A

## C-US025-024X044
designator C?, comment CAPACITOR, American symbol
GateName_1: G$1; SymbolName_1: C-US; DeviceName: 025-024X044; POPULARITY: 17; LibraryName: rcl; DeviceSetName: C-US; Package: C025-024X044; SPICEPREFIX: C
footprint C025-024X044
pins: 1, 2

## C-US025-025X050
designator C?, comment CAPACITOR, American symbol
GateName_1: G$1; SymbolName_1: C-US; DeviceName: 025-025X050; POPULARITY: 0; LibraryName: rcl; DeviceSetName: C-US; Package: C025-025X050; SPICEPREFIX: C
footprint C025-025X050
pins: 1, 2

## C-US025-030X050
designator C?, comment CAPACITOR, American symbol
GateName_1: G$1; SymbolName_1: C-US; DeviceName: 025-030X050; POPULARITY: 1; LibraryName: rcl; DeviceSetName: C-US; Package: C025-030X050; SPICEPREFIX: C
footprint C025-030X050
pins: 1, 2

## C-US025-040X050
designator C?, comment CAPACITOR, American symbol
GateName_1: G$1; SymbolName_1: C-US; DeviceName: 025-040X050; POPULARITY: 0; LibraryName: rcl; DeviceSetName: C-US; Package: C025-040X050; SPICEPREFIX: C
footprint C025-040X050
pins: 1, 2

## C-US025-050X050
designator C?, comment CAPACITOR, American symbol
GateName_1: G$1; SymbolName_1: C-US; DeviceName: 025-050X050; POPULARITY: 7; LibraryName: rcl; DeviceSetName: C-US; Package: C025-050X050; SPICEPREFIX: C
footprint C025-050X050
pins: 1, 2

## C-US025-060X050
designator C?, comment CAPACITOR, American symbol
GateName_1: G$1; SymbolName_1: C-US; DeviceName: 025-060X050; POPULARITY: 1; LibraryName: rcl; DeviceSetName: C-US; Package: C025-060X050; SPICEPREFIX: C
footprint C025-060X050
pins: 1, 2

## C-US025_050-025X075
designator C?, comment CAPACITOR, American symbol
GateName_1: G$1; SymbolName_1: C-US; DeviceName: 025_050-025X075; POPULARITY: 0; LibraryName: rcl; DeviceSetName: C-US; Package: C025_050-025X075; SPICEPREFIX: C
footprint C025_050-025X075
pins: 1, 2

## C-US025_050-035X075
designator C?, comment CAPACITOR, American symbol
GateName_1: G$1; SymbolName_1: C-US; DeviceName: 025_050-035X075; POPULARITY: 0; LibraryName: rcl; DeviceSetName: C-US; Package: C025_050-035X075; SPICEPREFIX: C
footprint C025_050-035X075
pins: 1, 2

## C-US025_050-045X075
designator C?, comment CAPACITOR, American symbol
GateName_1: G$1; SymbolName_1: C-US; DeviceName: 025_050-045X075; POPULARITY: 0; LibraryName: rcl; DeviceSetName: C-US; Package: C025_050-045X075; SPICEPREFIX: C
footprint C025_050-045X075
pins: 1, 2

## C-US025_050-055X075
designator C?, comment CAPACITOR, American symbol
GateName_1: G$1; SymbolName_1: C-US; DeviceName: 025_050-055X075; POPULARITY: 0; LibraryName: rcl; DeviceSetName: C-US; Package: C025_050-055X075; SPICEPREFIX: C
footprint C025_050-055X075
pins: 1, 2

## C-US050-024X044
designator C?, comment CAPACITOR, American symbol
GateName_1: G$1; SymbolName_1: C-US; DeviceName: 050-024X044; POPULARITY: 14; LibraryName: rcl; DeviceSetName: C-US; Package: C050-024X044; SPICEPREFIX: C
footprint C050-024X044
pins: 1, 2

## C-US050-025X075
designator C?, comment CAPACITOR, American symbol
GateName_1: G$1; SymbolName_1: C-US; DeviceName: 050-025X075; POPULARITY: 0; LibraryName: rcl; DeviceSetName: C-US; Package: C050-025X075; SPICEPREFIX: C
footprint C050-025X075
pins: 1, 2

## C-US050-030X075
designator C?, comment CAPACITOR, American symbol
GateName_1: G$1; SymbolName_1: C-US; DeviceName: 050-030X075; POPULARITY: 5; LibraryName: rcl; DeviceSetName: C-US; Package: C050-030X075; SPICEPREFIX: C
footprint C050-030X075
pins: 1, 2

## C-US050-035X075
designator C?, comment CAPACITOR, American symbol
GateName_1: G$1; SymbolName_1: C-US; DeviceName: 050-035X075; POPULARITY: 0; LibraryName: rcl; DeviceSetName: C-US; Package: C050-035X075; SPICEPREFIX: C
footprint C050-035X075
pins: 1, 2

## C-US050-045X075
designator C?, comment CAPACITOR, American symbol
GateName_1: G$1; SymbolName_1: C-US; DeviceName: 050-045X075; POPULARITY: 2; LibraryName: rcl; DeviceSetName: C-US; Package: C050-045X075; SPICEPREFIX: C
footprint C050-045X075
pins: 1, 2

## C-US050-050X075
designator C?, comment CAPACITOR, American symbol
GateName_1: G$1; SymbolName_1: C-US; DeviceName: 050-050X075; POPULARITY: 0; LibraryName: rcl; DeviceSetName: C-US; Package: C050-050X075; SPICEPREFIX: C
footprint C050-050X075
pins: 1, 2

## C-US050-055X075
designator C?, comment CAPACITOR, American symbol
GateName_1: G$1; SymbolName_1: C-US; DeviceName: 050-055X075; POPULARITY: 0; LibraryName: rcl; DeviceSetName: C-US; Package: C050-055X075; SPICEPREFIX: C
footprint C050-055X075
pins: 1, 2

## C-US050-075X075
designator C?, comment CAPACITOR, American symbol
GateName_1: G$1; SymbolName_1: C-US; DeviceName: 050-075X075; POPULARITY: 1; LibraryName: rcl; DeviceSetName: C-US; Package: C050-075X075; SPICEPREFIX: C
footprint C050-075X075
pins: 1, 2

## C-US050H075X075
designator C?, comment CAPACITOR, American symbol
GateName_1: G$1; SymbolName_1: C-US; DeviceName: 050H075X075; POPULARITY: 0; LibraryName: rcl; DeviceSetName: C-US; Package: C050H075X075; SPICEPREFIX: C
footprint C050H075X075
pins: 1, 2

## C-US075-032X103
designator C?, comment CAPACITOR, American symbol
GateName_1: G$1; SymbolName_1: C-US; DeviceName: 075-032X103; POPULARITY: 7; LibraryName: rcl; DeviceSetName: C-US; Package: C075-032X103; SPICEPREFIX: C
footprint C075-032X103
pins: 1, 2

## C-US075-042X103
designator C?, comment CAPACITOR, American symbol
GateName_1: G$1; SymbolName_1: C-US; DeviceName: 075-042X103; POPULARITY: 1; LibraryName: rcl; DeviceSetName: C-US; Package: C075-042X103; SPICEPREFIX: C
footprint C075-042X103
pins: 1, 2

## C-US075-052X106
designator C?, comment CAPACITOR, American symbol
GateName_1: G$1; SymbolName_1: C-US; DeviceName: 075-052X106; POPULARITY: 0; LibraryName: rcl; DeviceSetName: C-US; Package: C075-052X106; SPICEPREFIX: C
footprint C075-052X106
pins: 1, 2

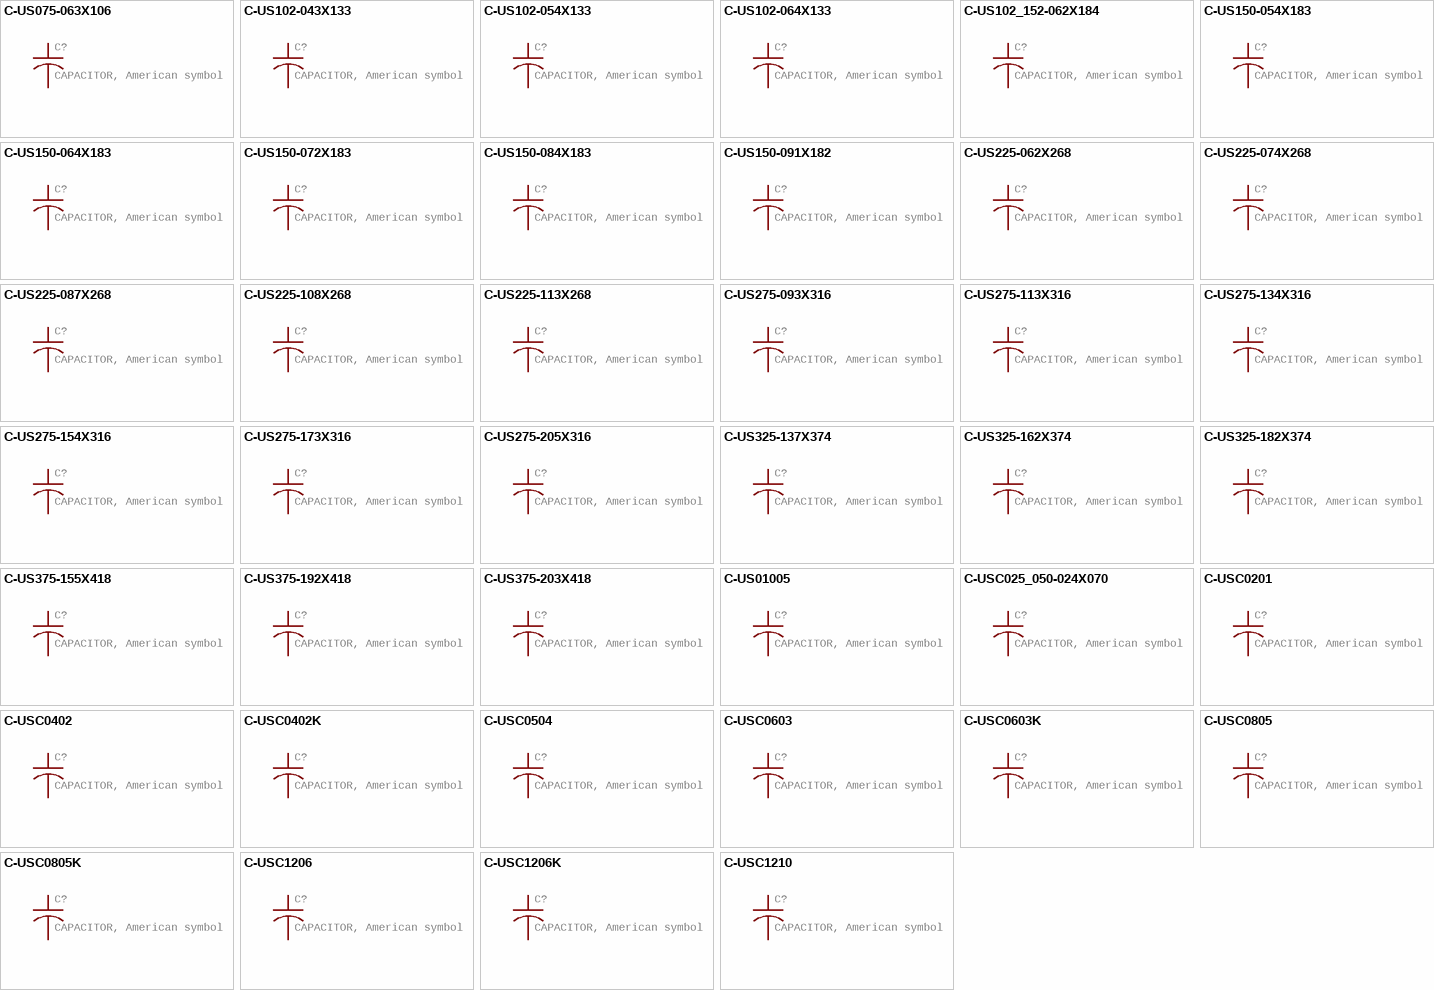
[diagram p3: symbols C-US075-063X106 to C-USC1210]

## C-US075-063X106
designator C?, comment CAPACITOR, American symbol
GateName_1: G$1; SymbolName_1: C-US; DeviceName: 075-063X106; POPULARITY: 1; LibraryName: rcl; DeviceSetName: C-US; Package: C075-063X106; SPICEPREFIX: C
footprint C075-063X106
pins: 1, 2

## C-US102-043X133
designator C?, comment CAPACITOR, American symbol
GateName_1: G$1; SymbolName_1: C-US; DeviceName: 102-043X133; POPULARITY: 0; LibraryName: rcl; DeviceSetName: C-US; Package: C102-043X133; SPICEPREFIX: C
footprint C102-043X133
pins: 1, 2

## C-US102-054X133
designator C?, comment CAPACITOR, American symbol
GateName_1: G$1; SymbolName_1: C-US; DeviceName: 102-054X133; POPULARITY: 0; LibraryName: rcl; DeviceSetName: C-US; Package: C102-054X133; SPICEPREFIX: C
footprint C102-054X133
pins: 1, 2

## C-US102-064X133
designator C?, comment CAPACITOR, American symbol
GateName_1: G$1; SymbolName_1: C-US; DeviceName: 102-064X133; POPULARITY: 0; LibraryName: rcl; DeviceSetName: C-US; Package: C102-064X133; SPICEPREFIX: C
footprint C102-064X133
pins: 1, 2

## C-US102_152-062X184
designator C?, comment CAPACITOR, American symbol
GateName_1: G$1; SymbolName_1: C-US; DeviceName: 102_152-062X184; POPULARITY: 0; LibraryName: rcl; DeviceSetName: C-US; Package: C102_152-062X184; SPICEPREFIX: C
footprint C102_152-062X184
pins: 1, 2

## C-US150-054X183
designator C?, comment CAPACITOR, American symbol
GateName_1: G$1; SymbolName_1: C-US; DeviceName: 150-054X183; POPULARITY: 0; LibraryName: rcl; DeviceSetName: C-US; Package: C150-054X183; SPICEPREFIX: C
footprint C150-054X183
pins: 1, 2

## C-US150-064X183
designator C?, comment CAPACITOR, American symbol
GateName_1: G$1; SymbolName_1: C-US; DeviceName: 150-064X183; POPULARITY: 0; LibraryName: rcl; DeviceSetName: C-US; Package: C150-064X183; SPICEPREFIX: C
footprint C150-064X183
pins: 1, 2

## C-US150-072X183
designator C?, comment CAPACITOR, American symbol
GateName_1: G$1; SymbolName_1: C-US; DeviceName: 150-072X183; POPULARITY: 0; LibraryName: rcl; DeviceSetName: C-US; Package: C150-072X183; SPICEPREFIX: C
footprint C150-072X183
pins: 1, 2

## C-US150-084X183
designator C?, comment CAPACITOR, American symbol
GateName_1: G$1; SymbolName_1: C-US; DeviceName: 150-084X183; POPULARITY: 0; LibraryName: rcl; DeviceSetName: C-US; Package: C150-084X183; SPICEPREFIX: C
footprint C150-084X183
pins: 1, 2

## C-US150-091X182
designator C?, comment CAPACITOR, American symbol
GateName_1: G$1; SymbolName_1: C-US; DeviceName: 150-091X182; POPULARITY: 0; LibraryName: rcl; DeviceSetName: C-US; Package: C150-091X182; SPICEPREFIX: C
footprint C150-091X182
pins: 1, 2

## C-US225-062X268
designator C?, comment CAPACITOR, American symbol
GateName_1: G$1; SymbolName_1: C-US; DeviceName: 225-062X268; POPULARITY: 0; LibraryName: rcl; DeviceSetName: C-US; Package: C225-062X268; SPICEPREFIX: C
footprint C225-062X268
pins: 1, 2

## C-US225-074X268
designator C?, comment CAPACITOR, American symbol
GateName_1: G$1; SymbolName_1: C-US; DeviceName: 225-074X268; POPULARITY: 0; LibraryName: rcl; DeviceSetName: C-US; Package: C225-074X268; SPICEPREFIX: C
footprint C225-074X268
pins: 1, 2

## C-US225-087X268
designator C?, comment CAPACITOR, American symbol
GateName_1: G$1; SymbolName_1: C-US; DeviceName: 225-087X268; POPULARITY: 0; LibraryName: rcl; DeviceSetName: C-US; Package: C225-087X268; SPICEPREFIX: C
footprint C225-087X268
pins: 1, 2

## C-US225-108X268
designator C?, comment CAPACITOR, American symbol
GateName_1: G$1; SymbolName_1: C-US; DeviceName: 225-108X268; POPULARITY: 0; LibraryName: rcl; DeviceSetName: C-US; Package: C225-108X268; SPICEPREFIX: C
footprint C225-108X268
pins: 1, 2

## C-US225-113X268
designator C?, comment CAPACITOR, American symbol
GateName_1: G$1; SymbolName_1: C-US; DeviceName: 225-113X268; POPULARITY: 0; LibraryName: rcl; DeviceSetName: C-US; Package: C225-113X268; SPICEPREFIX: C
footprint C225-113X268
pins: 1, 2

## C-US275-093X316
designator C?, comment CAPACITOR, American symbol
GateName_1: G$1; SymbolName_1: C-US; DeviceName: 275-093X316; POPULARITY: 0; LibraryName: rcl; DeviceSetName: C-US; Package: C275-093X316; SPICEPREFIX: C
footprint C275-093X316
pins: 1, 2

## C-US275-113X316
designator C?, comment CAPACITOR, American symbol
GateName_1: G$1; SymbolName_1: C-US; DeviceName: 275-113X316; POPULARITY: 0; LibraryName: rcl; DeviceSetName: C-US; Package: C275-113X316; SPICEPREFIX: C
footprint C275-113X316
pins: 1, 2

## C-US275-134X316
designator C?, comment CAPACITOR, American symbol
GateName_1: G$1; SymbolName_1: C-US; DeviceName: 275-134X316; POPULARITY: 0; LibraryName: rcl; DeviceSetName: C-US; Package: C275-134X316; SPICEPREFIX: C
footprint C275-134X316
pins: 1, 2

## C-US275-154X316
designator C?, comment CAPACITOR, American symbol
GateName_1: G$1; SymbolName_1: C-US; DeviceName: 275-154X316; POPULARITY: 0; LibraryName: rcl; DeviceSetName: C-US; Package: C275-154X316; SPICEPREFIX: C
footprint C275-154X316
pins: 1, 2

## C-US275-173X316
designator C?, comment CAPACITOR, American symbol
GateName_1: G$1; SymbolName_1: C-US; DeviceName: 275-173X316; POPULARITY: 0; LibraryName: rcl; DeviceSetName: C-US; Package: C275-173X316; SPICEPREFIX: C
footprint C275-173X316
pins: 1, 2

## C-US275-205X316
designator C?, comment CAPACITOR, American symbol
GateName_1: G$1; SymbolName_1: C-US; DeviceName: 275-205X316; POPULARITY: 0; LibraryName: rcl; DeviceSetName: C-US; Package: C275-205X316; SPICEPREFIX: C
footprint C275-205X316
pins: 1, 2

## C-US325-137X374
designator C?, comment CAPACITOR, American symbol
GateName_1: G$1; SymbolName_1: C-US; DeviceName: 325-137X374; POPULARITY: 0; LibraryName: rcl; DeviceSetName: C-US; Package: C325-137X374; SPICEPREFIX: C
footprint C325-137X374
pins: 1, 2

## C-US325-162X374
designator C?, comment CAPACITOR, American symbol
GateName_1: G$1; SymbolName_1: C-US; DeviceName: 325-162X374; POPULARITY: 0; LibraryName: rcl; DeviceSetName: C-US; Package: C325-162X374; SPICEPREFIX: C
footprint C325-162X374
pins: 1, 2

## C-US325-182X374
designator C?, comment CAPACITOR, American symbol
GateName_1: G$1; SymbolName_1: C-US; DeviceName: 325-182X374; POPULARITY: 0; LibraryName: rcl; DeviceSetName: C-US; Package: C325-182X374; SPICEPREFIX: C
footprint C325-182X374
pins: 1, 2

## C-US375-155X418
designator C?, comment CAPACITOR, American symbol
GateName_1: G$1; SymbolName_1: C-US; DeviceName: 375-155X418; POPULARITY: 0; LibraryName: rcl; DeviceSetName: C-US; Package: C375-155X418; SPICEPREFIX: C
footprint C375-155X418
pins: 1, 2

## C-US375-192X418
designator C?, comment CAPACITOR, American symbol
GateName_1: G$1; SymbolName_1: C-US; DeviceName: 375-192X418; POPULARITY: 0; LibraryName: rcl; DeviceSetName: C-US; Package: C375-192X418; SPICEPREFIX: C
footprint C375-192X418
pins: 1, 2

## C-US375-203X418
designator C?, comment CAPACITOR, American symbol
GateName_1: G$1; SymbolName_1: C-US; DeviceName: 375-203X418; POPULARITY: 0; LibraryName: rcl; DeviceSetName: C-US; Package: C375-203X418; SPICEPREFIX: C
footprint C375-203X418
pins: 1, 2

## C-US01005
designator C?, comment CAPACITOR, American symbol
GateName_1: G$1; SymbolName_1: C-US; DeviceName: 01005; POPULARITY: 2; LibraryName: rcl; DeviceSetName: C-US; Package: C01005; SPICEPREFIX: C
footprint C01005
pins: 1, 2

## C-USC025_050-024X070
designator C?, comment CAPACITOR, American symbol
GateName_1: G$1; SymbolName_1: C-US; DeviceName: C025_050-024X070; POPULARITY: 0; LibraryName: rcl; DeviceSetName: C-US; Package: C025_050-024X070; SPICEPREFIX: C
footprint C025_050-024X070
pins: 1, 2

## C-USC0201
designator C?, comment CAPACITOR, American symbol
GateName_1: G$1; SymbolName_1: C-US; DeviceName: C0201; POPULARITY: 3; LibraryName: rcl; DeviceSetName: C-US; Package: C0201; SPICEPREFIX: C
footprint C0201
pins: 1, 2

## C-USC0402
designator C?, comment CAPACITOR, American symbol
GateName_1: G$1; SymbolName_1: C-US; DeviceName: C0402; POPULARITY: 16; LibraryName: rcl; DeviceSetName: C-US; Package: C0402; SPICEPREFIX: C
footprint C0402
pins: 1, 2

## C-USC0402K
designator C?, comment CAPACITOR, American symbol
GateName_1: G$1; SymbolName_1: C-US; DeviceName: C0402K; POPULARITY: 4; LibraryName: rcl; DeviceSetName: C-US; Package: C0402K; SPICEPREFIX: C
footprint C0402K
pins: 1, 2

## C-USC0504
designator C?, comment CAPACITOR, American symbol
GateName_1: G$1; SymbolName_1: C-US; DeviceName: C0504; POPULARITY: 0; LibraryName: rcl; DeviceSetName: C-US; Package: C0504; SPICEPREFIX: C
footprint C0504
pins: 1, 2

## C-USC0603
designator C?, comment CAPACITOR, American symbol
GateName_1: G$1; SymbolName_1: C-US; DeviceName: C0603; POPULARITY: 37; LibraryName: rcl; DeviceSetName: C-US; Package: C0603; SPICEPREFIX: C
footprint C0603
pins: 1, 2

## C-USC0603K
designator C?, comment CAPACITOR, American symbol
GateName_1: G$1; SymbolName_1: C-US; DeviceName: C0603K; POPULARITY: 5; LibraryName: rcl; DeviceSetName: C-US; Package: C0603K; SPICEPREFIX: C
footprint C0603K
pins: 1, 2

## C-USC0805
designator C?, comment CAPACITOR, American symbol
GateName_1: G$1; SymbolName_1: C-US; DeviceName: C0805; POPULARITY: 63; LibraryName: rcl; DeviceSetName: C-US; Package: C0805; SPICEPREFIX: C
footprint C0805
pins: 1, 2

## C-USC0805K
designator C?, comment CAPACITOR, American symbol
GateName_1: G$1; SymbolName_1: C-US; DeviceName: C0805K; POPULARITY: 19; LibraryName: rcl; DeviceSetName: C-US; Package: C0805K; SPICEPREFIX: C
footprint C0805K
pins: 1, 2

## C-USC1206
designator C?, comment CAPACITOR, American symbol
GateName_1: G$1; SymbolName_1: C-US; DeviceName: C1206; POPULARITY: 24; LibraryName: rcl; DeviceSetName: C-US; Package: C1206; SPICEPREFIX: C
footprint C1206
pins: 1, 2

## C-USC1206K
designator C?, comment CAPACITOR, American symbol
GateName_1: G$1; SymbolName_1: C-US; DeviceName: C1206K; POPULARITY: 2; LibraryName: rcl; DeviceSetName: C-US; Package: C1206K; SPICEPREFIX: C
footprint C1206K
pins: 1, 2

## C-USC1210
designator C?, comment CAPACITOR, American symbol
GateName_1: G$1; SymbolName_1: C-US; DeviceName: C1210; POPULARITY: 6; LibraryName: rcl; DeviceSetName: C-US; Package: C1210; SPICEPREFIX: C
footprint C1210
pins: 1, 2

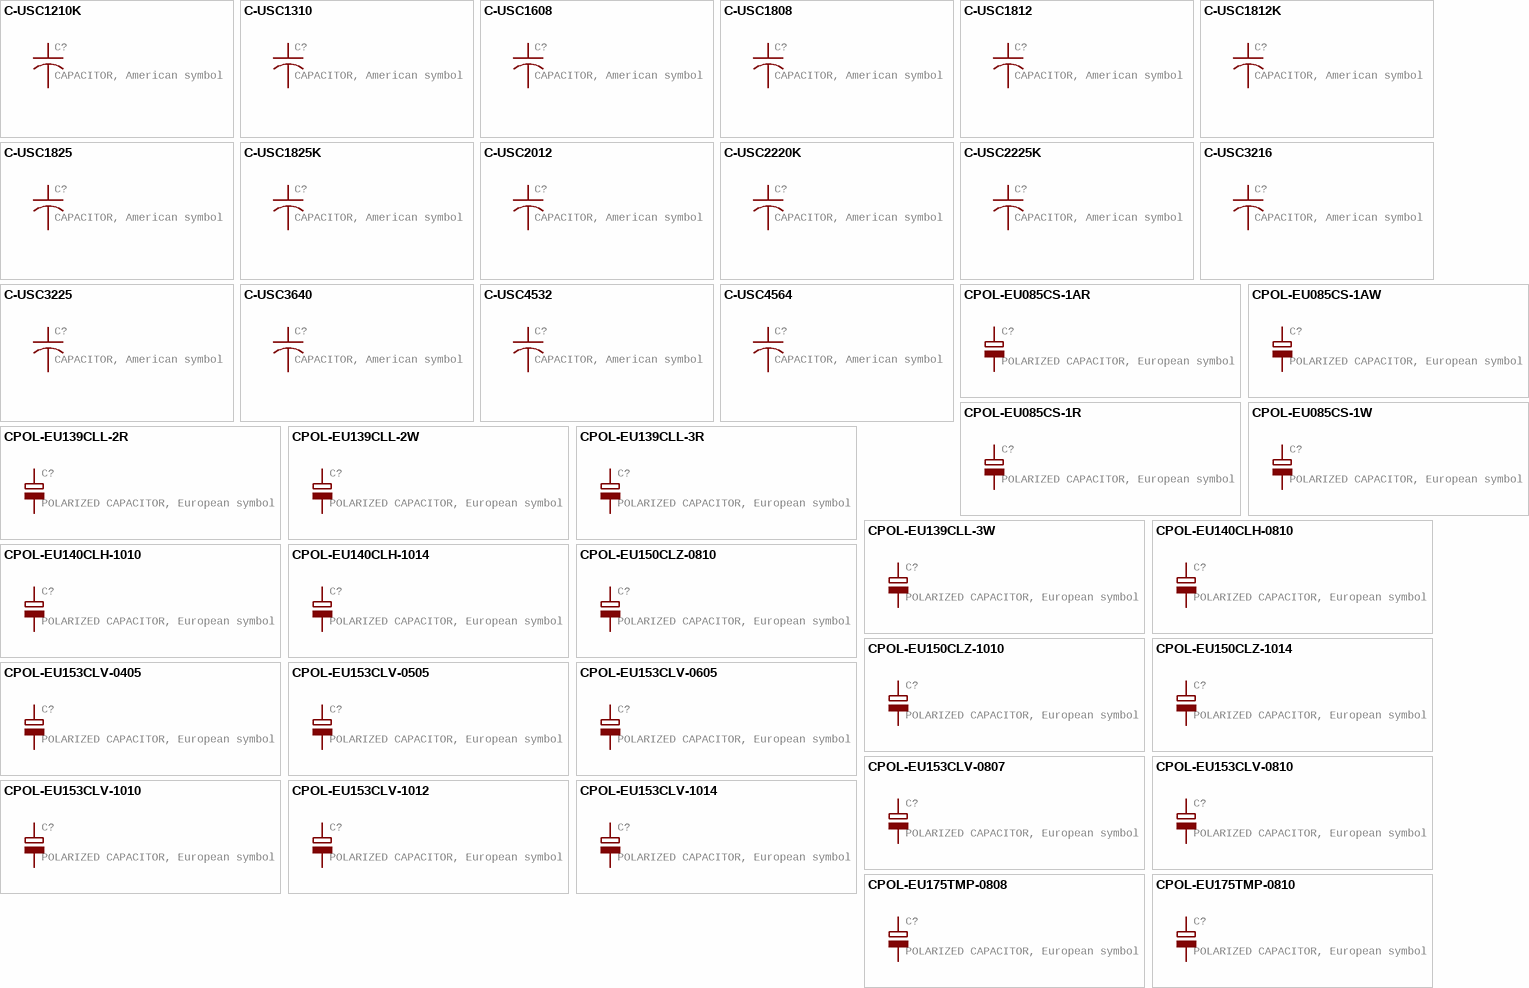
[diagram p4: symbols C-USC1210K to CPOL-EU175TMP-0810]

## C-USC1210K
designator C?, comment CAPACITOR, American symbol
GateName_1: G$1; SymbolName_1: C-US; DeviceName: C1210K; POPULARITY: 0; LibraryName: rcl; DeviceSetName: C-US; Package: C1210K; SPICEPREFIX: C
footprint C1210K
pins: 1, 2

## C-USC1310
designator C?, comment CAPACITOR, American symbol
GateName_1: G$1; SymbolName_1: C-US; DeviceName: C1310; POPULARITY: 0; LibraryName: rcl; DeviceSetName: C-US; Package: C1310; SPICEPREFIX: C
footprint C1310
pins: 1, 2

## C-USC1608
designator C?, comment CAPACITOR, American symbol
GateName_1: G$1; SymbolName_1: C-US; DeviceName: C1608; POPULARITY: 0; LibraryName: rcl; DeviceSetName: C-US; Package: C1608; SPICEPREFIX: C
footprint C1608
pins: 1, 2

## C-USC1808
designator C?, comment CAPACITOR, American symbol
GateName_1: G$1; SymbolName_1: C-US; DeviceName: C1808; POPULARITY: 0; LibraryName: rcl; DeviceSetName: C-US; Package: C1808; SPICEPREFIX: C
footprint C1808
pins: 1, 2

## C-USC1812
designator C?, comment CAPACITOR, American symbol
GateName_1: G$1; SymbolName_1: C-US; DeviceName: C1812; POPULARITY: 0; LibraryName: rcl; DeviceSetName: C-US; Package: C1812; SPICEPREFIX: C
footprint C1812
pins: 1, 2

## C-USC1812K
designator C?, comment CAPACITOR, American symbol
GateName_1: G$1; SymbolName_1: C-US; DeviceName: C1812K; POPULARITY: 0; LibraryName: rcl; DeviceSetName: C-US; Package: C1812K; SPICEPREFIX: C
footprint C1812K
pins: 1, 2

## C-USC1825
designator C?, comment CAPACITOR, American symbol
GateName_1: G$1; SymbolName_1: C-US; DeviceName: C1825; POPULARITY: 0; LibraryName: rcl; DeviceSetName: C-US; Package: C1825; SPICEPREFIX: C
footprint C1825
pins: 1, 2

## C-USC1825K
designator C?, comment CAPACITOR, American symbol
GateName_1: G$1; SymbolName_1: C-US; DeviceName: C1825K; POPULARITY: 0; LibraryName: rcl; DeviceSetName: C-US; Package: C1825K; SPICEPREFIX: C
footprint C1825K
pins: 1, 2

## C-USC2012
designator C?, comment CAPACITOR, American symbol
GateName_1: G$1; SymbolName_1: C-US; DeviceName: C2012; POPULARITY: 0; LibraryName: rcl; DeviceSetName: C-US; Package: C2012; SPICEPREFIX: C
footprint C2012
pins: 1, 2

## C-USC2220K
designator C?, comment CAPACITOR, American symbol
GateName_1: G$1; SymbolName_1: C-US; DeviceName: C2220K; POPULARITY: 0; LibraryName: rcl; DeviceSetName: C-US; Package: C2220K; SPICEPREFIX: C
footprint C2220K
pins: 1, 2

## C-USC2225K
designator C?, comment CAPACITOR, American symbol
GateName_1: G$1; SymbolName_1: C-US; DeviceName: C2225K; POPULARITY: 0; LibraryName: rcl; DeviceSetName: C-US; Package: C2225K; SPICEPREFIX: C
footprint C2225K
pins: 1, 2

## C-USC3216
designator C?, comment CAPACITOR, American symbol
GateName_1: G$1; SymbolName_1: C-US; DeviceName: C3216; POPULARITY: 0; LibraryName: rcl; DeviceSetName: C-US; Package: C3216; SPICEPREFIX: C
footprint C3216
pins: 1, 2

## C-USC3225
designator C?, comment CAPACITOR, American symbol
GateName_1: G$1; SymbolName_1: C-US; DeviceName: C3225; POPULARITY: 0; LibraryName: rcl; DeviceSetName: C-US; Package: C3225; SPICEPREFIX: C
footprint C3225
pins: 1, 2

## C-USC3640
designator C?, comment CAPACITOR, American symbol
GateName_1: G$1; SymbolName_1: C-US; DeviceName: C3640; POPULARITY: 0; LibraryName: rcl; DeviceSetName: C-US; Package: C3640; SPICEPREFIX: C
footprint C3640
pins: 1, 2

## C-USC4532
designator C?, comment CAPACITOR, American symbol
GateName_1: G$1; SymbolName_1: C-US; DeviceName: C4532; POPULARITY: 0; LibraryName: rcl; DeviceSetName: C-US; Package: C4532; SPICEPREFIX: C
footprint C4532
pins: 1, 2

## C-USC4564
designator C?, comment CAPACITOR, American symbol
GateName_1: G$1; SymbolName_1: C-US; DeviceName: C4564; POPULARITY: 0; LibraryName: rcl; DeviceSetName: C-US; Package: C4564; SPICEPREFIX: C
footprint C4564
pins: 1, 2

## CPOL-EU085CS-1AR
designator C?, comment POLARIZED CAPACITOR, European symbol
GateName_1: G$1; SymbolName_1: CPOL; DeviceName: 085CS-1AR; DeviceSetName: CPOL-EU; POPULARITY: 3; LibraryName: rcl; Package: 085CS_1AR; SPICEPREFIX: C
footprint 085CS_1AR
pins: +, -

## CPOL-EU085CS-1AW
designator C?, comment POLARIZED CAPACITOR, European symbol
GateName_1: G$1; SymbolName_1: CPOL; DeviceName: 085CS-1AW; DeviceSetName: CPOL-EU; POPULARITY: 0; LibraryName: rcl; Package: 085CS_1AW; SPICEPREFIX: C
footprint 085CS_1AW
pins: +, -

## CPOL-EU085CS-1R
designator C?, comment POLARIZED CAPACITOR, European symbol
GateName_1: G$1; SymbolName_1: CPOL; DeviceName: 085CS-1R; DeviceSetName: CPOL-EU; POPULARITY: 0; LibraryName: rcl; Package: 085CS_1R; SPICEPREFIX: C
footprint 085CS_1R
pins: +, -

## CPOL-EU085CS-1W
designator C?, comment POLARIZED CAPACITOR, European symbol
GateName_1: G$1; SymbolName_1: CPOL; DeviceName: 085CS-1W; DeviceSetName: CPOL-EU; POPULARITY: 0; LibraryName: rcl; Package: 085CS_1W; SPICEPREFIX: C
footprint 085CS_1W
pins: +, -

## CPOL-EU139CLL-2R
designator C?, comment POLARIZED CAPACITOR, European symbol
GateName_1: G$1; SymbolName_1: CPOL; DeviceName: 139CLL-2R; DeviceSetName: CPOL-EU; POPULARITY: 0; LibraryName: rcl; Package: 139CLL-2R; SPICEPREFIX: C
footprint 139CLL-2R
pins: +, -

## CPOL-EU139CLL-2W
designator C?, comment POLARIZED CAPACITOR, European symbol
GateName_1: G$1; SymbolName_1: CPOL; DeviceName: 139CLL-2W; DeviceSetName: CPOL-EU; POPULARITY: 0; LibraryName: rcl; Package: 139CLL-2W; SPICEPREFIX: C
footprint 139CLL-2W
pins: +, -

## CPOL-EU139CLL-3R
designator C?, comment POLARIZED CAPACITOR, European symbol
GateName_1: G$1; SymbolName_1: CPOL; DeviceName: 139CLL-3R; DeviceSetName: CPOL-EU; POPULARITY: 0; LibraryName: rcl; Package: 139CLL-3R; SPICEPREFIX: C
footprint 139CLL-3R
pins: +, -

## CPOL-EU139CLL-3W
designator C?, comment POLARIZED CAPACITOR, European symbol
GateName_1: G$1; SymbolName_1: CPOL; DeviceName: 139CLL-3W; DeviceSetName: CPOL-EU; POPULARITY: 0; LibraryName: rcl; Package: 139CLL-3W; SPICEPREFIX: C
footprint 139CLL-3W
pins: +, -

## CPOL-EU140CLH-0810
designator C?, comment POLARIZED CAPACITOR, European symbol
GateName_1: G$1; SymbolName_1: CPOL; DeviceName: 140CLH-0810; DeviceSetName: CPOL-EU; POPULARITY: 4; LibraryName: rcl; Package: 140CLH-0810; SPICEPREFIX: C
footprint 140CLH-0810
pins: +, -

## CPOL-EU140CLH-1010
designator C?, comment POLARIZED CAPACITOR, European symbol
GateName_1: G$1; SymbolName_1: CPOL; DeviceName: 140CLH-1010; DeviceSetName: CPOL-EU; POPULARITY: 0; LibraryName: rcl; Package: 140CLH-1010; SPICEPREFIX: C
footprint 140CLH-1010
pins: +, -

## CPOL-EU140CLH-1014
designator C?, comment POLARIZED CAPACITOR, European symbol
GateName_1: G$1; SymbolName_1: CPOL; DeviceName: 140CLH-1014; DeviceSetName: CPOL-EU; POPULARITY: 0; LibraryName: rcl; Package: 140CLH-1014; SPICEPREFIX: C
footprint 140CLH-1014
pins: +, -

## CPOL-EU150CLZ-0810
designator C?, comment POLARIZED CAPACITOR, European symbol
GateName_1: G$1; SymbolName_1: CPOL; DeviceName: 150CLZ-0810; DeviceSetName: CPOL-EU; POPULARITY: 3; LibraryName: rcl; Package: 150CLZ-0810; SPICEPREFIX: C
footprint 150CLZ-0810
pins: +, -

## CPOL-EU150CLZ-1010
designator C?, comment POLARIZED CAPACITOR, European symbol
GateName_1: G$1; SymbolName_1: CPOL; DeviceName: 150CLZ-1010; DeviceSetName: CPOL-EU; POPULARITY: 0; LibraryName: rcl; Package: 150CLZ-1010; SPICEPREFIX: C
footprint 150CLZ-1010
pins: +, -

## CPOL-EU150CLZ-1014
designator C?, comment POLARIZED CAPACITOR, European symbol
GateName_1: G$1; SymbolName_1: CPOL; DeviceName: 150CLZ-1014; DeviceSetName: CPOL-EU; POPULARITY: 1; LibraryName: rcl; Package: 150CLZ-1014; SPICEPREFIX: C
footprint 150CLZ-1014
pins: +, -

## CPOL-EU153CLV-0405
designator C?, comment POLARIZED CAPACITOR, European symbol
GateName_1: G$1; SymbolName_1: CPOL; DeviceName: 153CLV-0405; DeviceSetName: CPOL-EU; POPULARITY: 0; LibraryName: rcl; Package: 153CLV-0405; SPICEPREFIX: C
footprint 153CLV-0405
pins: +, -

## CPOL-EU153CLV-0505
designator C?, comment POLARIZED CAPACITOR, European symbol
GateName_1: G$1; SymbolName_1: CPOL; DeviceName: 153CLV-0505; DeviceSetName: CPOL-EU; POPULARITY: 3; LibraryName: rcl; Package: 153CLV-0505; SPICEPREFIX: C
footprint 153CLV-0505
pins: +, -

## CPOL-EU153CLV-0605
designator C?, comment POLARIZED CAPACITOR, European symbol
GateName_1: G$1; SymbolName_1: CPOL; DeviceName: 153CLV-0605; DeviceSetName: CPOL-EU; POPULARITY: 5; LibraryName: rcl; Package: 153CLV-0605; SPICEPREFIX: C
footprint 153CLV-0605
pins: +, -

## CPOL-EU153CLV-0807
designator C?, comment POLARIZED CAPACITOR, European symbol
GateName_1: G$1; SymbolName_1: CPOL; DeviceName: 153CLV-0807; DeviceSetName: CPOL-EU; POPULARITY: 0; LibraryName: rcl; Package: 153CLV-0807; SPICEPREFIX: C
footprint 153CLV-0807
pins: +, -

## CPOL-EU153CLV-0810
designator C?, comment POLARIZED CAPACITOR, European symbol
GateName_1: G$1; SymbolName_1: CPOL; DeviceName: 153CLV-0810; DeviceSetName: CPOL-EU; POPULARITY: 4; LibraryName: rcl; Package: 153CLV-0810; SPICEPREFIX: C
footprint 153CLV-0810
pins: +, -

## CPOL-EU153CLV-1010
designator C?, comment POLARIZED CAPACITOR, European symbol
GateName_1: G$1; SymbolName_1: CPOL; DeviceName: 153CLV-1010; DeviceSetName: CPOL-EU; POPULARITY: 0; LibraryName: rcl; Package: 153CLV-1010; SPICEPREFIX: C
footprint 153CLV-1010
pins: +, -